# Altium schematic symbol library LM2596T.SchLib: 1 symbol
Pins are listed as number, name and electrical type; pins without a type are passive.

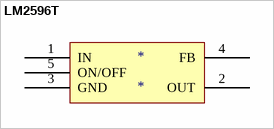
[diagram p0: symbol LM2596T]

## LM2596T
designator *
pins: 1 IN, 2 OUT, 3 GND, 4 FB, 5 ON/OFF